# Altium schematic symbol library ADUM4150ARIZ.SchLib: 1 symbol
Pins are listed as number, name and electrical type; pins without a type are passive.

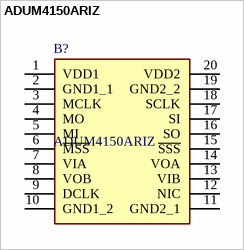
[diagram p0: symbol ADUM4150ARIZ]

## ADUM4150ARIZ
designator B?
5kV, 6-Channel, SPIsolator Digital Isolator for SPI with Delay Clock; Manufacturer_Name: Analog Devices; Geometry.Height: 2.64mm; Manufacturer_Part_Number: ADUM4150ARIZ; Mouser Part Number: 584-ADUM4150ARIZ; Mouser Price/Stock: https://www.mouser.co.uk/ProductDetail/Analog-Devices/ADUM4150ARIZ?qs=iCT64eccu7g5leq3YKn5uw%3D%3D; Arrow Part Number: ADUM4150ARIZ; Arrow Price/Stock: https://www.arrow.com/en/products/adum4150ariz/analog-devices?region=europe; Datasheet Link: https://www.analog.com/ADUM4150/datasheet
footprint SOIC127P1030X264-20N
pins: 1 VDD1, 2 GND1_1, 3 MCLK, 4 MO, 5 MI, 6 ~{MSS}, 7 VIA, 8 VOB, 9 DCLK, 10 GND1_2, 11 GND2_1, 12 NIC, 13 VIB, 14 VOA, 15 ~{SSS}, 16 SO, 17 SI, 18 SCLK, 19 GND2_2, 20 VDD2